# EAGLE library part CML_PE9618X_RL2012 (library wheat)
COMMON MODE INDUCTOR, DUAL FOOTPRINT PE-9618X AND RENCO RL-6012
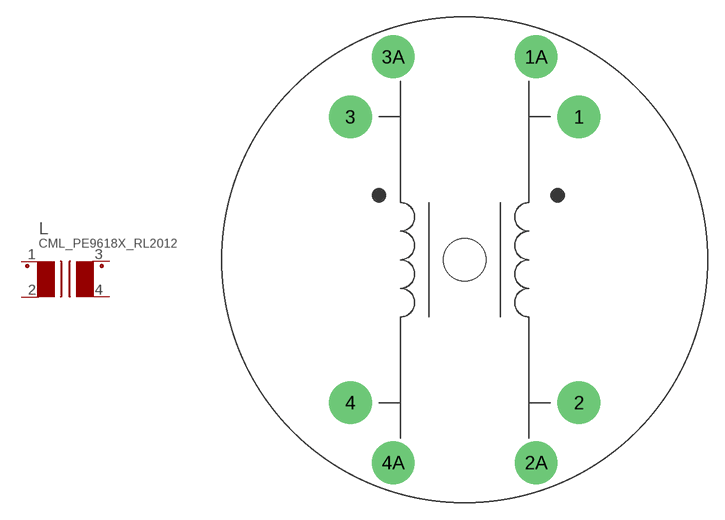
[diagram p84: symbol with the pads of CML_PE_RENCO; footprint CML_PE_RENCO]

Designator prefix L

## CML_PE9618X_RL2012  [CML_PE_RENCO]
1  P1  pas
1A  P1A  pas
2  P2  pas
2A  P2A  pas
3  S1  pas
3A  S1A  pas
4  S2  pas
4A  S2A  pas

## Footprint CML_PE_RENCO (pad centres in mm)
COMMON MODE INDUCOTR, DUAL FOOTPRINT PE 9618X AND RENCO RL6012
drill 1.778 pad 3.81: 1 10.16,12.7; 2 10.16,-12.7; 3 -10.16,12.7; 4 -10.16,-12.7
drill 1.016 pad 3.81: 1A 6.35,18.034; 2A 6.35,-18.034; 3A -6.35,18.034; 4A -6.35,-18.034
hole 3.81 at 0,0